# Altium footprint library INDuctors_Manufacturers.PcbLib: 13 footprints
Each footprint in its own frame and in the unit in brackets; x right, y up, seen from the top. Pads: shape width x height; smd on the part's side, far side on the other; paste and mask are expansions set on the pad; w line width, h text height; cw(c..) or ccw(c..) is an arc to the next point about the centre after c.
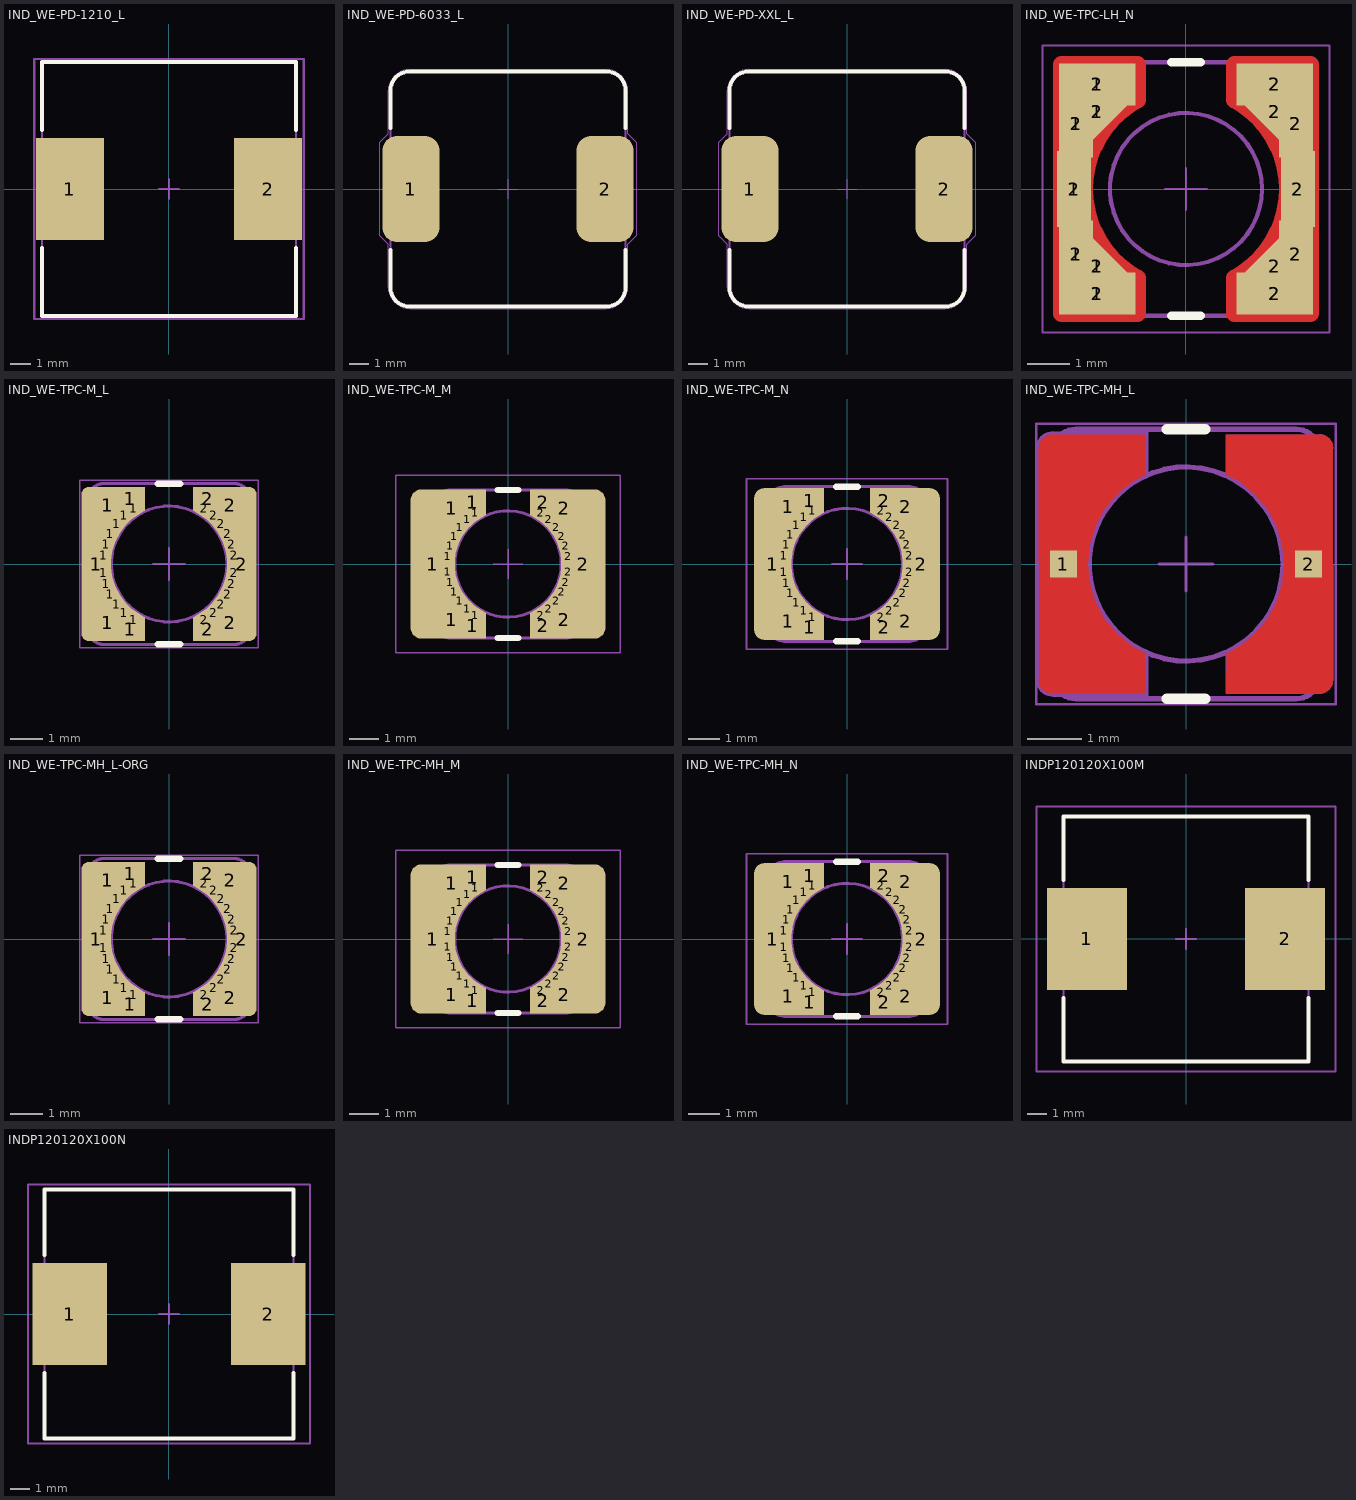
[diagram p0: the footprints below, top view; thin cyan lines are the x and y axes]

## IND_WE-PD-1210_L [mm] "Precision Wire Wound Inductor WuerthElektronik-PD, Typ XXL, 2-Leads, Body 12.0x12.0x10.0mm, IPC High Density"
height 10
pads (2):
  rect 3.35x5 smd: 1(-4.875,0) 2(4.875,0)
Top Overlay:
  lines w0.2: -6.25,-2.9 -6.25,-6.25 6.25,-6.25 6.25,-2.9 ; -6.25,2.9 -6.25,6.25 6.25,6.25 6.25,2.9
TopBody:
  lines w0.1: -6.25,-6.25 -6.25,6.25 6.25,6.25 6.25,-6.25 -6.25,-6.25
TopCourtyard:
  lines w0.1: -0.5,0 0.5,0 ; 0,-0.5 0,0.5 ; -6.625,-6.4 -6.625,6.4 6.625,6.4 6.625,-6.4 -6.625,-6.4
3D body: height 10, standoff 0, extent -6.25,-6.25 6.25,6.25

## IND_WE-PD-6033_L [mm] "Precision Wire Wound Inductor WuerthElektronik-PD, Typ XS, 2-Leads, Body 5.9x6.2x3.3mm, IPC High Density"
height 3.3
pads (2):
  rrect50% 2.9x5.4 smd: 1(-4.95,0) 2(4.95,0)
Top Overlay:
  lines w0.2: -6,-3.1 -6,-5 ccw(c-5,-5) -5,-6 5,-6 ccw(c5,-5) 6,-5 6,-3.1 ; -6,3.1 -6,5 cw(c-5,5) -5,6 5,6 cw(c5,5) 6,5 6,3.1
TopBody:
  lines w0.1: -6,-5 ccw(c-5,-5) -5,-6 5,-6 ccw(c5,-5) 6,-5 6,5 ccw(c5,5) 5,6 -5,6 ccw(c-5,5) -6,5 -6,-5
TopCourtyard:
  lines w0.05: -0.5,0 0,0 ; 0,-0.5 0,0 ; 0,0.5 0,0 ; 0.5,0 0,0 ; -6.55,-2.375 -6.1,-2.825 -6.1,-5 ccw(c-5,-5) -5,-6.1 5,-6.1 ccw(c5,-5) 6.1,-5 6.1,-2.825 6.55,-2.375 6.55,2.375 6.1,2.825 6.1,5 ccw(c5,5) 5,6.1 -5,6.1 ccw(c-5,5) -6.1,5 -6.1,2.825 -6.55,2.375 -6.55,-2.375
3D body: height 3.05, standoff -0.25, extent -12.4,7.8 -6.2,13.7
3D body: height 10, standoff 0, extent -6.009,-6.009 6.009,6.009

## IND_WE-PD-XXL_L [mm] "Precision Wire Wound Inductor WuerthElektronik-PD, Typ XXL, 2-Leads, Body 12.0x12.0mm, IPC High Density"
height 10
pads (2):
  rrect50% 2.9x5.4 smd: 1(-4.95,0) 2(4.95,0)
Top Overlay:
  lines w0.2: -6,-3.1 -6,-5 ccw(c-5,-5) -5,-6 5,-6 ccw(c5,-5) 6,-5 6,-3.1 ; -6,3.1 -6,5 cw(c-5,5) -5,6 5,6 cw(c5,5) 6,5 6,3.1
TopBody:
  lines w0.1: -6,-5 ccw(c-5,-5) -5,-6 5,-6 ccw(c5,-5) 6,-5 6,5 ccw(c5,5) 5,6 -5,6 ccw(c-5,5) -6,5 -6,-5
TopCourtyard:
  lines w0.05: -0.5,0 0,0 ; 0,-0.5 0,0 ; 0,0.5 0,0 ; 0.5,0 0,0 ; -6.55,-2.375 -6.1,-2.825 -6.1,-5 ccw(c-5,-5) -5,-6.1 5,-6.1 ccw(c5,-5) 6.1,-5 6.1,-2.825 6.55,-2.375 6.55,2.375 6.1,2.825 6.1,5 ccw(c5,5) 5,6.1 -5,6.1 ccw(c-5,5) -6.1,5 -6.1,2.825 -6.55,2.375 -6.55,-2.375
3D body: height 10, standoff 0, extent -6.009,-6.009 6.009,6.009

## IND_WE-TPC-LH_N [mm] "Precision Wire Wound Inductor WuerthElektronik-TPC, Typ LH, 2-Leads, Body 5.8x5.8mm, IPC Medium Density"
height 3
pads (28):
  rect 0.8x1.8 smd: 1(-2.65,0) 2(2.65,0)
  rect 0.8x1.6 smd: 1(-2.6,-1.55) 1(-2.6,1.55) 2(2.6,-1.55) 2(2.6,1.55)
  rect 1.8x1 smd: 1(-2.1,-2.475) 1(-2.1,2.475) 2(2.1,-2.475) 2(2.1,2.475)
  rect 1.6x0.8 smd rot 135: 1(-2.1,-1.825) 2(2.1,1.825)
  rect 1.6x0.8 smd rot 45: 1(-2.1,1.825) 2(2.1,-1.825)
  rect 0.8x1.8 on Top Solder: 2(-2.65,0) 2(2.65,0)
  rect 0.8x1.6 on Top Solder: 2(-2.6,-1.55) 2(-2.6,1.55) 2(2.6,-1.55) 2(2.6,1.55)
  rect 1.8x1 on Top Solder: 2(-2.1,-2.475) 2(-2.1,2.475) 2(2.1,-2.475) 2(2.1,2.475)
  rect 1.6x0.8 on Top Solder rot 135: 2(-2.1,-1.825) 2(2.1,1.825)
  rect 1.6x0.8 on Top Solder rot 45: 2(-2.1,1.825) 2(2.1,-1.825)
Top Layer:
  lines w0.4: -2.95,-2.95 -1.15,-2.95 -1.15,-2.107 cw(c0,0) -1.15,2.107 -1.15,2.95 -2.95,2.95 -2.95,-2.95 ; 1.15,-2.95 2.95,-2.95 2.95,2.95 1.15,2.95 1.15,2.107 cw(c0,0) 1.15,-2.107 1.15,-2.95
Top Overlay:
  lines w0.2: -0.35,-3 0.35,-3 ; -0.35,3 0.35,3
Top Solder:
  lines w0.6: -2.95,-2.95 -1.15,-2.95 -1.15,-2.107 cw(c0,0) -1.15,2.107 -1.15,2.95 -2.95,2.95 -2.95,-2.95 ; 1.15,-2.95 2.95,-2.95 2.95,2.95 1.15,2.95 1.15,2.107 cw(c0,0) 1.15,-2.107 1.15,-2.95
TopBody:
  circle w0.1: c0,0 r1.8
  lines w0.1: -3,-2.532 ccw(c-2.532,-2.532) -2.532,-3 2.532,-3 ccw(c2.532,-2.532) 3,-2.532 3,2.532 ccw(c2.532,2.532) 2.532,3 -2.532,3 ccw(c-2.532,2.532) -3,2.532 -3,-2.532
  text ".Designator" at -0.635,-0.254 h0.5
TopCourtyard:
  lines w0.05: -0.5,0 0,0 ; 0,-0.5 0,0 ; 0,0.5 0,0 ; 0.5,0 0,0 ; -3.4,-3.4 -3.4,3.4 3.4,3.4 3.4,-3.4 -3.4,-3.4
3D body: height 3, standoff 0, extent -3.009,-3.009 3.009,3.009

## IND_WE-TPC-M_L [mm] "Precision Wire Wound Inductor WuerthElektronik-TPC, Typ M, 2-Leads, Body 4.8x4.8mm, IPC High Density"
height 2
pads (34):
  rrect50% 0.924x4.8 smd: 1(-2.262,0) 2(2.262,0)
  rect 0.5x0.5 smd rot 172.5: 1(-2.032,0.268) 2(2.032,-0.268)
  rect 0.5x0.5 smd rot 7.5: 1(-2.032,-0.268) 2(2.032,0.268)
  rect 0.5x0.5 smd rot 162.5: 1(-1.955,0.616) 2(1.955,-0.616)
  rect 0.5x0.5 smd rot 17.5: 1(-1.955,-0.616) 2(1.955,0.616)
  rect 1x1.15 smd: 1(-1.9,-1.825) 1(-1.9,1.825) 2(1.9,-1.825) 2(1.9,1.825)
  rect 0.5x0.5 smd rot 152.5: 1(-1.818,0.947) 2(1.818,-0.947)
  rect 0.5x0.5 smd rot 27.5: 1(-1.818,-0.947) 2(1.818,0.947)
  rect 0.5x0.5 smd rot 142.5: 1(-1.626,1.248) 2(1.626,-1.248)
  rect 0.5x0.5 smd rot 37.5: 1(-1.626,-1.248) 2(1.626,1.248)
  rect 0.5x0.5 smd rot 132.5: 1(-1.385,1.511) 2(1.385,-1.511)
  rect 0.5x0.5 smd rot 47.5: 1(-1.385,-1.511) 2(1.385,1.511)
  rect 0.9x0.75 smd: 1(-1.2,-2.025) 1(-1.2,2.025) 2(1.2,-2.025) 2(1.2,2.025)
  rect 0.5x0.5 smd rot 122.5: 1(-1.101,1.729) 2(1.101,-1.729)
  rect 0.5x0.5 smd rot 57.5: 1(-1.101,-1.729) 2(1.101,1.729)
Top Overlay:
  lines w0.2: -0.35,-2.5 0.35,-2.5 ; -0.35,2.5 0.35,2.5
TopBody:
  circle w0.1: c0,0 r1.8
  lines w0.1: -2.5,-2.032 ccw(c-2.032,-2.032) -2.032,-2.5 2.032,-2.5 ccw(c2.032,-2.032) 2.5,-2.032 2.5,2.032 ccw(c2.032,2.032) 2.032,2.5 -2.032,2.5 ccw(c-2.032,2.032) -2.5,2.032 -2.5,-2.032
  text ".Designator" at -0.635,-0.254 h0.5
TopCourtyard:
  lines w0.05: -0.5,0 0,0 ; 0,-0.5 0,0 ; 0,0.5 0,0 ; 0.5,0 0,0 ; -2.775,-2.6 -2.775,2.6 2.775,2.6 2.775,-2.6 -2.775,-2.6
3D body: height 2, standoff 0, extent -2.5,-2.525 2.5,2.475

## IND_WE-TPC-M_M [mm] "Precision Wire Wound Inductor WuerthElektronik-TPC, Typ M, 2-Leads, Body 4.8x4.8mm, IPC Low Density"
height 2
pads (34):
  rrect50% 1.5x5.05 smd: 1(-2.55,0) 2(2.55,0)
  rect 0.5x0.5 smd rot 172.5: 1(-2.032,0.268) 2(2.032,-0.268)
  rect 0.5x0.5 smd rot 7.5: 1(-2.032,-0.268) 2(2.032,0.268)
  rect 0.5x0.5 smd rot 162.5: 1(-1.955,0.616) 2(1.955,-0.616)
  rect 0.5x0.5 smd rot 17.5: 1(-1.955,-0.616) 2(1.955,0.616)
  rect 1x1.28 smd: 1(-1.9,-1.885) 1(-1.9,1.885) 2(1.9,-1.885) 2(1.9,1.885)
  rect 0.5x0.5 smd rot 152.5: 1(-1.818,0.947) 2(1.818,-0.947)
  rect 0.5x0.5 smd rot 27.5: 1(-1.818,-0.947) 2(1.818,0.947)
  rect 0.5x0.5 smd rot 142.5: 1(-1.626,1.248) 2(1.626,-1.248)
  rect 0.5x0.5 smd rot 37.5: 1(-1.626,-1.248) 2(1.626,1.248)
  rect 0.5x0.5 smd rot 132.5: 1(-1.385,1.511) 2(1.385,-1.511)
  rect 0.5x0.5 smd rot 47.5: 1(-1.385,-1.511) 2(1.385,1.511)
  rect 0.9x0.88 smd: 1(-1.2,-2.085) 1(-1.2,2.085) 2(1.2,-2.085) 2(1.2,2.085)
  rect 0.5x0.5 smd rot 122.5: 1(-1.101,1.729) 2(1.101,-1.729)
  rect 0.5x0.5 smd rot 57.5: 1(-1.101,-1.729) 2(1.101,1.729)
Top Overlay:
  lines w0.2: -0.35,-2.5 0.35,-2.5 ; -0.35,2.5 0.35,2.5
TopBody:
  circle w0.1: c0,0 r1.8
  lines w0.1: -2.5,-2.032 ccw(c-2.032,-2.032) -2.032,-2.5 2.032,-2.5 ccw(c2.032,-2.032) 2.5,-2.032 2.5,2.032 ccw(c2.032,2.032) 2.032,2.5 -2.032,2.5 ccw(c-2.032,2.032) -2.5,2.032 -2.5,-2.032
  text ".Designator" at -0.635,-0.254 h0.5
TopCourtyard:
  lines w0.05: -0.5,0 0.5,0 ; 0,-0.5 0,0.5 ; -3.8,-3 3.8,-3 3.8,3 -3.8,3 -3.8,-3
3D body: height 2, standoff 0, extent -2.5,-2.525 2.5,2.475

## IND_WE-TPC-M_N [mm] "Precision Wire Wound Inductor WuerthElektronik-TPC, Typ M, 2-Leads, Body 4.8x4.8mm, IPC Medium Density"
height 2
pads (34):
  rrect50% 1.2x4.9 smd: 1(-2.4,0) 2(2.4,0)
  rect 0.5x0.5 smd rot 172.5: 1(-2.032,0.268) 2(2.032,-0.268)
  rect 0.5x0.5 smd rot 7.5: 1(-2.032,-0.268) 2(2.032,0.268)
  rect 0.5x0.5 smd rot 162.5: 1(-1.955,0.616) 2(1.955,-0.616)
  rect 0.5x0.5 smd rot 17.5: 1(-1.955,-0.616) 2(1.955,0.616)
  rect 1x1.2 smd: 1(-1.9,-1.85) 1(-1.9,1.85) 2(1.9,-1.85) 2(1.9,1.85)
  rect 0.5x0.5 smd rot 152.5: 1(-1.818,0.947) 2(1.818,-0.947)
  rect 0.5x0.5 smd rot 27.5: 1(-1.818,-0.947) 2(1.818,0.947)
  rect 0.5x0.5 smd rot 142.5: 1(-1.626,1.248) 2(1.626,-1.248)
  rect 0.5x0.5 smd rot 37.5: 1(-1.626,-1.248) 2(1.626,1.248)
  rect 0.5x0.5 smd rot 132.5: 1(-1.385,1.511) 2(1.385,-1.511)
  rect 0.5x0.5 smd rot 47.5: 1(-1.385,-1.511) 2(1.385,1.511)
  rect 0.9x0.8 smd: 1(-1.2,-2.05) 1(-1.2,2.05) 2(1.2,-2.05) 2(1.2,2.05)
  rect 0.5x0.5 smd rot 122.5: 1(-1.101,1.729) 2(1.101,-1.729)
  rect 0.5x0.5 smd rot 57.5: 1(-1.101,-1.729) 2(1.101,1.729)
Top Overlay:
  lines w0.2: -0.35,-2.5 0.35,-2.5 ; -0.35,2.5 0.35,2.5
TopBody:
  circle w0.1: c0,0 r1.8
  lines w0.1: -2.5,-2.032 ccw(c-2.032,-2.032) -2.032,-2.5 2.032,-2.5 ccw(c2.032,-2.032) 2.5,-2.032 2.5,2.032 ccw(c2.032,2.032) 2.032,2.5 -2.032,2.5 ccw(c-2.032,2.032) -2.5,2.032 -2.5,-2.032
  text ".Designator" at -0.635,-0.254 h0.5
TopCourtyard:
  lines w0.05: -0.5,0 0.5,0 ; 0,-0.5 0,0.5 ; -3.25,-2.75 -3.25,2.75 3.25,2.75 3.25,-2.75 -3.25,-2.75
3D body: height 2, standoff 0, extent -2.5,-2.525 2.5,2.475

## IND_WE-TPC-MH_L [mm] "Precision Wire Wound Inductor WuerthElektronik-TPC, Typ MH, 2-Leads, Body 4.8x4.8mm, IPC High Density"
height 3
pads (2):
  rect 0.5x0.5 smd paste-4 mask-4: 1(-2.275,0) 2(2.275,0)
Top Layer:
  region: 2.475,2.405 2.573,2.385 2.655,2.33 2.71,2.248 2.73,2.15 2.725,2.15 2.73,-2.15 2.71,-2.248 2.655,-2.33 2.573,-2.385 2.475,-2.405 2.475,-2.4 0.75,-2.4 0.752,-1.653 1.012,-1.514 1.288,-1.288 1.514,-1.012 1.683,-0.697 1.786,-0.355 1.821,0 1.786,0.355 1.683,0.697 1.514,1.012 1.288,1.288 1.012,1.514 0.752,1.653 0.75,1.65 0.75,2.4
  region: -2.475,-2.405 -2.573,-2.385 -2.655,-2.33 -2.71,-2.248 -2.73,-2.15 -2.725,-2.15 -2.73,2.15 -2.71,2.248 -2.655,2.33 -2.573,2.385 -2.475,2.405 -2.475,2.4 -0.75,2.4 -0.752,1.653 -1.012,1.514 -1.288,1.288 -1.514,1.012 -1.683,0.697 -1.786,0.355 -1.821,0 -1.786,-0.355 -1.683,-0.697 -1.514,-1.012 -1.288,-1.288 -1.012,-1.514 -0.752,-1.653 -0.75,-1.65 -0.75,-2.4
Top Overlay:
  lines w0.2: -0.35,-2.5 0.35,-2.5 ; -0.35,2.5 0.35,2.5
Top Paste:
  region: 2.475,2.405 2.573,2.385 2.655,2.33 2.71,2.248 2.73,2.15 2.725,2.15 2.73,-2.15 2.71,-2.248 2.655,-2.33 2.573,-2.385 2.475,-2.405 2.475,-2.4 0.75,-2.4 0.752,-1.653 1.012,-1.514 1.288,-1.288 1.514,-1.012 1.683,-0.697 1.786,-0.355 1.821,0 1.786,0.355 1.683,0.697 1.514,1.012 1.288,1.288 1.012,1.514 0.752,1.653 0.75,1.65 0.75,2.4
  region: -2.475,-2.405 -2.573,-2.385 -2.655,-2.33 -2.71,-2.248 -2.73,-2.15 -2.725,-2.15 -2.73,2.15 -2.71,2.248 -2.655,2.33 -2.573,2.385 -2.475,2.405 -2.475,2.4 -0.75,2.4 -0.752,1.653 -1.012,1.514 -1.288,1.288 -1.514,1.012 -1.683,0.697 -1.786,0.355 -1.821,0 -1.786,-0.355 -1.683,-0.697 -1.514,-1.012 -1.288,-1.288 -1.012,-1.514 -0.752,-1.653 -0.75,-1.65 -0.75,-2.4
Top Solder:
  region: 2.475,2.457 2.592,2.433 2.692,2.367 2.758,2.267 2.782,2.15 2.776,2.15 2.774,-2.2 2.774,-2.201 2.775,-2.201 2.776,-2.201 2.776,-2.2 2.774,-2.2 2.775,-2.183 2.758,-2.267 2.692,-2.367 2.592,-2.433 2.475,-2.457 2.475,-2.451 0.699,-2.45 0.699,-2.451 0.7,-2.451 0.699,-2.45 0.7,-1.617 0.699,-1.617 0.702,-1.622 0.983,-1.472 1.252,-1.252 1.472,-0.983 1.635,-0.677 1.736,-0.345 1.77,0 1.736,0.345 1.635,0.677 1.472,0.983 1.252,1.252 0.983,1.472 0.702,1.622 0.699,1.617 0.7,1.617 0.699,1.617 0.7,2.451 0.699,2.451 0.699,2.45 0.7,2.451
  region: -2.475,-2.457 -2.592,-2.433 -2.692,-2.367 -2.758,-2.267 -2.782,-2.15 -2.776,-2.15 -2.774,2.2 -2.774,2.201 -2.775,2.201 -2.776,2.201 -2.776,2.2 -2.774,2.2 -2.775,2.183 -2.758,2.267 -2.692,2.367 -2.592,2.433 -2.475,2.457 -2.475,2.451 -0.699,2.45 -0.699,2.451 -0.7,2.451 -0.699,2.45 -0.7,1.617 -0.699,1.617 -0.702,1.622 -0.983,1.472 -1.252,1.252 -1.472,0.983 -1.635,0.677 -1.736,0.345 -1.77,0 -1.736,-0.345 -1.635,-0.677 -1.472,-0.983 -1.252,-1.252 -0.983,-1.472 -0.702,-1.622 -0.699,-1.617 -0.7,-1.617 -0.699,-1.617 -0.7,-2.451 -0.699,-2.451 -0.699,-2.45 -0.7,-2.451
M-CAD:
  region: -2.475,-2.457 -2.592,-2.433 -2.692,-2.367 -2.758,-2.267 -2.782,-2.15 -2.776,-2.15 -2.774,2.2 -2.774,2.201 -2.775,2.201 -2.776,2.201 -2.776,2.2 -2.774,2.2 -2.775,2.183 -2.758,2.267 -2.692,2.367 -2.592,2.433 -2.475,2.457 -2.475,2.451 -0.699,2.45 -0.699,2.451 -0.7,2.451 -0.699,2.45 -0.7,1.617 -0.699,1.617 -0.702,1.622 -0.983,1.472 -1.252,1.252 -1.472,0.983 -1.635,0.677 -1.736,0.345 -1.77,0 -1.736,-0.345 -1.635,-0.677 -1.472,-0.983 -1.252,-1.252 -0.983,-1.472 -0.702,-1.622 -0.699,-1.617 -0.7,-1.617 -0.699,-1.617 -0.7,-2.451 -0.699,-2.451 -0.699,-2.45 -0.7,-2.451
  region: 0.75,-2.4 0.752,-1.653 1.012,-1.514 1.288,-1.288 1.514,-1.012 1.683,-0.697 1.786,-0.355 1.821,0 1.786,0.355 1.683,0.697 1.514,1.012 1.288,1.288 1.012,1.514 0.752,1.653 0.75,1.65 0.75,2.4 2.475,2.405 2.573,2.385 2.655,2.33 2.71,2.248 2.73,2.15 2.725,2.15 2.73,-2.15 2.71,-2.248 2.655,-2.33 2.573,-2.385 2.475,-2.405 2.475,-2.4
  lines w0.001: -2.775,2.15 cw(c-2.475,2.15) -2.475,2.45 -0.7,2.45 -0.7,1.617 ccw(c0,0) -0.7,-1.617 -0.7,-2.45 -2.475,-2.45 cw(c-2.475,-2.15) -2.775,-2.15 -2.775,2.2 ; 0.75,-2.4 0.75,-1.65 ccw(c0,0) 0.75,1.65 0.75,2.4 2.475,2.4 cw(c2.475,2.15) 2.725,2.15 2.725,-2.15 cw(c2.475,-2.15) 2.475,-2.4 0.75,-2.4
TopBody:
  circle w0.1: c0,0 r1.8
  lines w0.1: -2.5,-2.032 ccw(c-2.032,-2.032) -2.032,-2.5 2.032,-2.5 ccw(c2.032,-2.032) 2.5,-2.032 2.5,2.032 ccw(c2.032,2.032) 2.032,2.5 -2.032,2.5 ccw(c-2.032,2.032) -2.5,2.032 -2.5,-2.032
  text ".Designator" at -0.635,-0.254 h0.5
TopCourtyard:
  lines w0.05: -0.5,0 0,0 ; 0,-0.5 0,0 ; 0,0.5 0,0 ; 0.5,0 0,0 ; -2.775,-2.6 -2.775,2.6 2.775,2.6 2.775,-2.6 -2.775,-2.6
3D body: height 3, standoff 0, extent -2.5,-2.525 2.5,2.475

## IND_WE-TPC-MH_L-ORG [mm] "Precision Wire Wound Inductor WuerthElektronik-TPC, Typ MH, 2-Leads, Body 4.8x4.8mm, IPC High Density"
height 3
pads (34):
  rrect50% 0.924x4.8 smd: 1(-2.262,0) 2(2.262,0)
  rect 0.5x0.5 smd rot 172.5: 1(-2.032,0.268) 2(2.032,-0.268)
  rect 0.5x0.5 smd rot 7.5: 1(-2.032,-0.268) 2(2.032,0.268)
  rect 0.5x0.5 smd rot 162.5: 1(-1.955,0.616) 2(1.955,-0.616)
  rect 0.5x0.5 smd rot 17.5: 1(-1.955,-0.616) 2(1.955,0.616)
  rect 1x1.15 smd: 1(-1.9,-1.825) 1(-1.9,1.825) 2(1.9,-1.825) 2(1.9,1.825)
  rect 0.5x0.5 smd rot 152.5: 1(-1.818,0.947) 2(1.818,-0.947)
  rect 0.5x0.5 smd rot 27.5: 1(-1.818,-0.947) 2(1.818,0.947)
  rect 0.5x0.5 smd rot 142.5: 1(-1.626,1.248) 2(1.626,-1.248)
  rect 0.5x0.5 smd rot 37.5: 1(-1.626,-1.248) 2(1.626,1.248)
  rect 0.5x0.5 smd rot 132.5: 1(-1.385,1.511) 2(1.385,-1.511)
  rect 0.5x0.5 smd rot 47.5: 1(-1.385,-1.511) 2(1.385,1.511)
  rect 0.9x0.75 smd: 1(-1.2,-2.025) 1(-1.2,2.025) 2(1.2,-2.025) 2(1.2,2.025)
  rect 0.5x0.5 smd rot 122.5: 1(-1.101,1.729) 2(1.101,-1.729)
  rect 0.5x0.5 smd rot 57.5: 1(-1.101,-1.729) 2(1.101,1.729)
Top Overlay:
  lines w0.2: -0.35,-2.5 0.35,-2.5 ; -0.35,2.5 0.35,2.5
TopBody:
  circle w0.1: c0,0 r1.8
  lines w0.1: -2.5,-2.032 ccw(c-2.032,-2.032) -2.032,-2.5 2.032,-2.5 ccw(c2.032,-2.032) 2.5,-2.032 2.5,2.032 ccw(c2.032,2.032) 2.032,2.5 -2.032,2.5 ccw(c-2.032,2.032) -2.5,2.032 -2.5,-2.032
  text ".Designator" at -0.635,-0.254 h0.5
TopCourtyard:
  lines w0.05: -0.5,0 0,0 ; 0,-0.5 0,0 ; 0,0.5 0,0 ; 0.5,0 0,0 ; -2.775,-2.6 -2.775,2.6 2.775,2.6 2.775,-2.6 -2.775,-2.6
3D body: height 3, standoff 0, extent -2.5,-2.525 2.5,2.475

## IND_WE-TPC-MH_M [mm] "Precision Wire Wound Inductor WuerthElektronik-TPC, Typ MH, 2-Leads, Body 4.8x4.8mm, IPC Low Density"
height 3
pads (34):
  rrect50% 1.5x5.05 smd: 1(-2.55,0) 2(2.55,0)
  rect 0.5x0.5 smd rot 172.5: 1(-2.032,0.268) 2(2.032,-0.268)
  rect 0.5x0.5 smd rot 7.5: 1(-2.032,-0.268) 2(2.032,0.268)
  rect 0.5x0.5 smd rot 162.5: 1(-1.955,0.616) 2(1.955,-0.616)
  rect 0.5x0.5 smd rot 17.5: 1(-1.955,-0.616) 2(1.955,0.616)
  rect 1x1.28 smd: 1(-1.9,-1.885) 1(-1.9,1.885) 2(1.9,-1.885) 2(1.9,1.885)
  rect 0.5x0.5 smd rot 152.5: 1(-1.818,0.947) 2(1.818,-0.947)
  rect 0.5x0.5 smd rot 27.5: 1(-1.818,-0.947) 2(1.818,0.947)
  rect 0.5x0.5 smd rot 142.5: 1(-1.626,1.248) 2(1.626,-1.248)
  rect 0.5x0.5 smd rot 37.5: 1(-1.626,-1.248) 2(1.626,1.248)
  rect 0.5x0.5 smd rot 132.5: 1(-1.385,1.511) 2(1.385,-1.511)
  rect 0.5x0.5 smd rot 47.5: 1(-1.385,-1.511) 2(1.385,1.511)
  rect 0.9x0.88 smd: 1(-1.2,-2.085) 1(-1.2,2.085) 2(1.2,-2.085) 2(1.2,2.085)
  rect 0.5x0.5 smd rot 122.5: 1(-1.101,1.729) 2(1.101,-1.729)
  rect 0.5x0.5 smd rot 57.5: 1(-1.101,-1.729) 2(1.101,1.729)
Top Overlay:
  lines w0.2: -0.35,-2.5 0.35,-2.5 ; -0.35,2.5 0.35,2.5
TopBody:
  circle w0.1: c0,0 r1.8
  lines w0.1: -2.5,-2.032 ccw(c-2.032,-2.032) -2.032,-2.5 2.032,-2.5 ccw(c2.032,-2.032) 2.5,-2.032 2.5,2.032 ccw(c2.032,2.032) 2.032,2.5 -2.032,2.5 ccw(c-2.032,2.032) -2.5,2.032 -2.5,-2.032
  text ".Designator" at -0.635,-0.254 h0.5
TopCourtyard:
  lines w0.05: -0.5,0 0.5,0 ; 0,-0.5 0,0.5 ; -3.8,-3 -3.8,3 3.8,3 3.8,-3 -3.8,-3
3D body: height 3, standoff 0, extent -2.5,-2.525 2.5,2.475

## IND_WE-TPC-MH_N [mm] "Precision Wire Wound Inductor WuerthElektronik-TPC, Typ MH, 2-Leads, Body 4.8x4.8mm, IPC Medium Density"
height 3
pads (34):
  rrect50% 1.2x4.9 smd: 1(-2.4,0) 2(2.4,0)
  rect 0.5x0.5 smd rot 172.5: 1(-2.032,0.268) 2(2.032,-0.268)
  rect 0.5x0.5 smd rot 7.5: 1(-2.032,-0.268) 2(2.032,0.268)
  rect 0.5x0.5 smd rot 162.5: 1(-1.955,0.616) 2(1.955,-0.616)
  rect 0.5x0.5 smd rot 17.5: 1(-1.955,-0.616) 2(1.955,0.616)
  rect 1x1.2 smd: 1(-1.9,-1.85) 1(-1.9,1.85) 2(1.9,-1.85) 2(1.9,1.85)
  rect 0.5x0.5 smd rot 152.5: 1(-1.818,0.947) 2(1.818,-0.947)
  rect 0.5x0.5 smd rot 27.5: 1(-1.818,-0.947) 2(1.818,0.947)
  rect 0.5x0.5 smd rot 142.5: 1(-1.626,1.248) 2(1.626,-1.248)
  rect 0.5x0.5 smd rot 37.5: 1(-1.626,-1.248) 2(1.626,1.248)
  rect 0.5x0.5 smd rot 132.5: 1(-1.385,1.511) 2(1.385,-1.511)
  rect 0.5x0.5 smd rot 47.5: 1(-1.385,-1.511) 2(1.385,1.511)
  rect 0.9x0.8 smd: 1(-1.2,-2.05) 1(-1.2,2.05) 2(1.2,-2.05) 2(1.2,2.05)
  rect 0.5x0.5 smd rot 122.5: 1(-1.101,1.729) 2(1.101,-1.729)
  rect 0.5x0.5 smd rot 57.5: 1(-1.101,-1.729) 2(1.101,1.729)
Top Overlay:
  lines w0.2: -0.35,-2.5 0.35,-2.5 ; -0.35,2.5 0.35,2.5
TopBody:
  circle w0.1: c0,0 r1.8
  lines w0.1: -2.5,-2.032 ccw(c-2.032,-2.032) -2.032,-2.5 2.032,-2.5 ccw(c2.032,-2.032) 2.5,-2.032 2.5,2.032 ccw(c2.032,2.032) 2.032,2.5 -2.032,2.5 ccw(c-2.032,2.032) -2.5,2.032 -2.5,-2.032
  text ".Designator" at -0.635,-0.254 h0.5
TopCourtyard:
  lines w0.05: -0.5,0 0.5,0 ; 0,-0.5 0,0.5 ; -3.25,-2.75 3.25,-2.75 3.25,2.75 -3.25,2.75 -3.25,-2.75
3D body: height 3, standoff 0, extent -2.5,-2.525 2.5,2.475

## INDP120120X100M [mm] "Precision Wire Wound Inductor, 2-Leads, Body 12.0x12.0mm, IPC Low Density"
height 10
pads (2):
  rect 4.1x5.2 smd: 1(-5.05,0) 2(5.05,0)
Top Overlay:
  lines w0.2: -6.25,-3 -6.25,-6.25 6.25,-6.25 6.25,-3 ; -6.25,3 -6.25,6.25 6.25,6.25 6.25,3
TopBody:
  lines w0.1: -6.25,-6.25 6.25,-6.25 6.25,6.25 -6.25,6.25 -6.25,-6.25
TopCourtyard:
  lines w0.1: -0.5,0 0.5,0 ; 0,-0.5 0,0.5 ; -7.625,-6.75 7.625,-6.75 7.625,6.75 -7.625,6.75 -7.625,-6.75
3D body: height 10, standoff 0, extent -6.25,-6.25 6.25,6.25

## INDP120120X100N [mm] "Precision Wire Wound Inductor, 2-Leads, Body 12.0x12.0mm, IPC Medium Density"
height 10
pads (2):
  rect 3.75x5.1 smd: 1(-4.975,0) 2(4.975,0)
Top Overlay:
  lines w0.2: -6.25,-2.95 -6.25,-6.25 6.25,-6.25 6.25,-2.95 ; -6.25,2.95 -6.25,6.25 6.25,6.25 6.25,2.95
TopBody:
  lines w0.1: -6.25,-6.25 -6.25,6.25 6.25,6.25 6.25,-6.25 -6.25,-6.25
TopCourtyard:
  lines w0.1: -0.5,0 0.5,0 ; 0,-0.5 0,0.5 ; -7.075,-6.5 -7.075,6.5 7.075,6.5 7.075,-6.5 -7.075,-6.5
3D body: height 10, standoff 0, extent -6.25,-6.25 6.25,6.25